# Altium footprint library K104K15X7RF5TH5.PcbLib: 1 footprints
Each footprint in its own frame and in the unit in brackets; x right, y up, seen from the top. Pads: shape width x height; smd on the part's side, far side on the other; paste and mask are expansions set on the pad; w line width, h text height; cw(c..) or ccw(c..) is an arc to the next point about the centre after c.
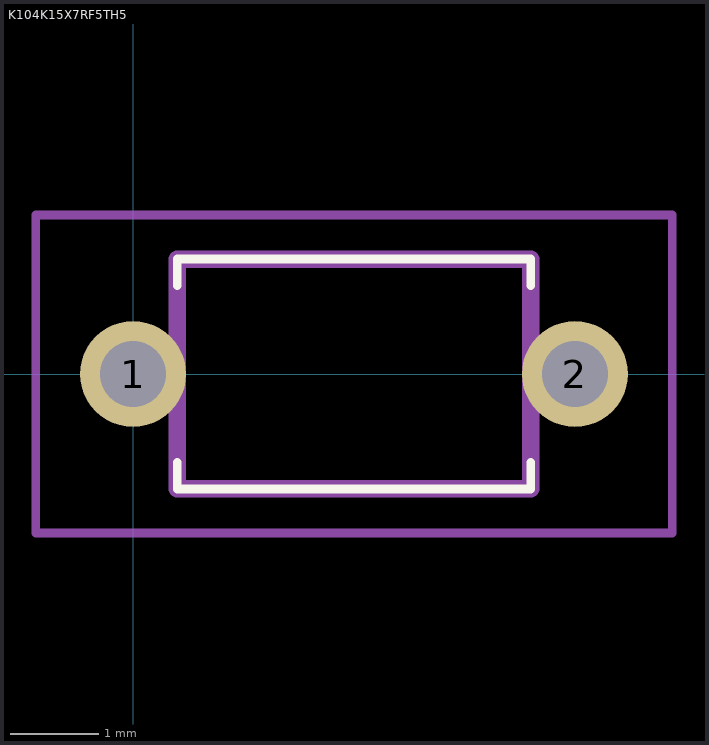
[diagram p0: the footprint, top view; thin cyan lines are the x and y axes]

## K104K15X7RF5TH5 [mm]
pads (2):
  round 1.2 hole 0.75: 1(0,0) 2(5,0)
Top Overlay:
  lines w0.1: 0.5,-1 0.5,-1.3 4.5,-1.3 4.5,-1 ; 0.5,1 0.5,1.3 4.5,1.3 4.5,1
Mechanical 15:
  lines w0.2: 0.5,-1.3 4.5,-1.3 4.5,1.3 0.5,1.3 0.5,-1.3
Mechanical 20:
  lines w0.1: -1.1,-1.8 6.1,-1.8 6.1,1.8 -1.1,1.8 -1.1,-1.8